# Altium schematic symbol library AS7331.SchLib: 1 symbol
Pins are listed as number, name and electrical type; pins without a type are passive.

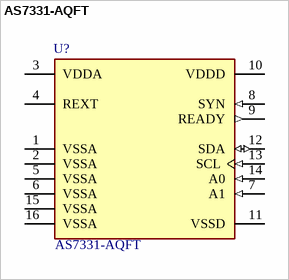
[diagram p0: symbol AS7331-AQFT]

## AS7331-AQFT
designator U?
3-Channel UV-A/B/C Spectral Sensor-ICs; Manufacturer_Name: ams OSRAM; Geometry.Height: 1.1mm; Mouser Part Number: 985-AS7331TOLGA16LFT; Mouser Price/Stock: https://www.mouser.ch/ProductDetail/ams-OSRAM/AS7331-AQFT?qs=rQFj71Wb1eWlOxzFWeDWjA%3D%3D; Manufacturer_Part_Number: AS7331-AQFT; Datasheet Link: https://ams.com/documents/20143/9106314/AS7331_DS001047_4-00.pdf; Supplier 1: Mouser; Supplier Part Number 1: 985-AS7331TOLGA16LFT
footprint OLGA16
pins: 1 VSSA (power), 2 VSSA (power), 3 VDDA (power), 4 REXT, 5 VSSA (power), 6 VSSA (power), 7 A1 (in), 8 SYN (in), 9 READY (out), 10 VDDD (power), 11 VSSD (power), 12 SDA (io), 13 SCL (in), 14 A0 (in), 15 VSSA (power), 16 VSSA (power)